# Altium footprint library PcbLib1.PcbLib: 12 footprints
Each footprint in its own frame and in the unit in brackets; x right, y up, seen from the top. Pads: shape width x height; smd on the part's side, far side on the other; paste and mask are expansions set on the pad; w line width, h text height; cw(c..) or ccw(c..) is an arc to the next point about the centre after c.
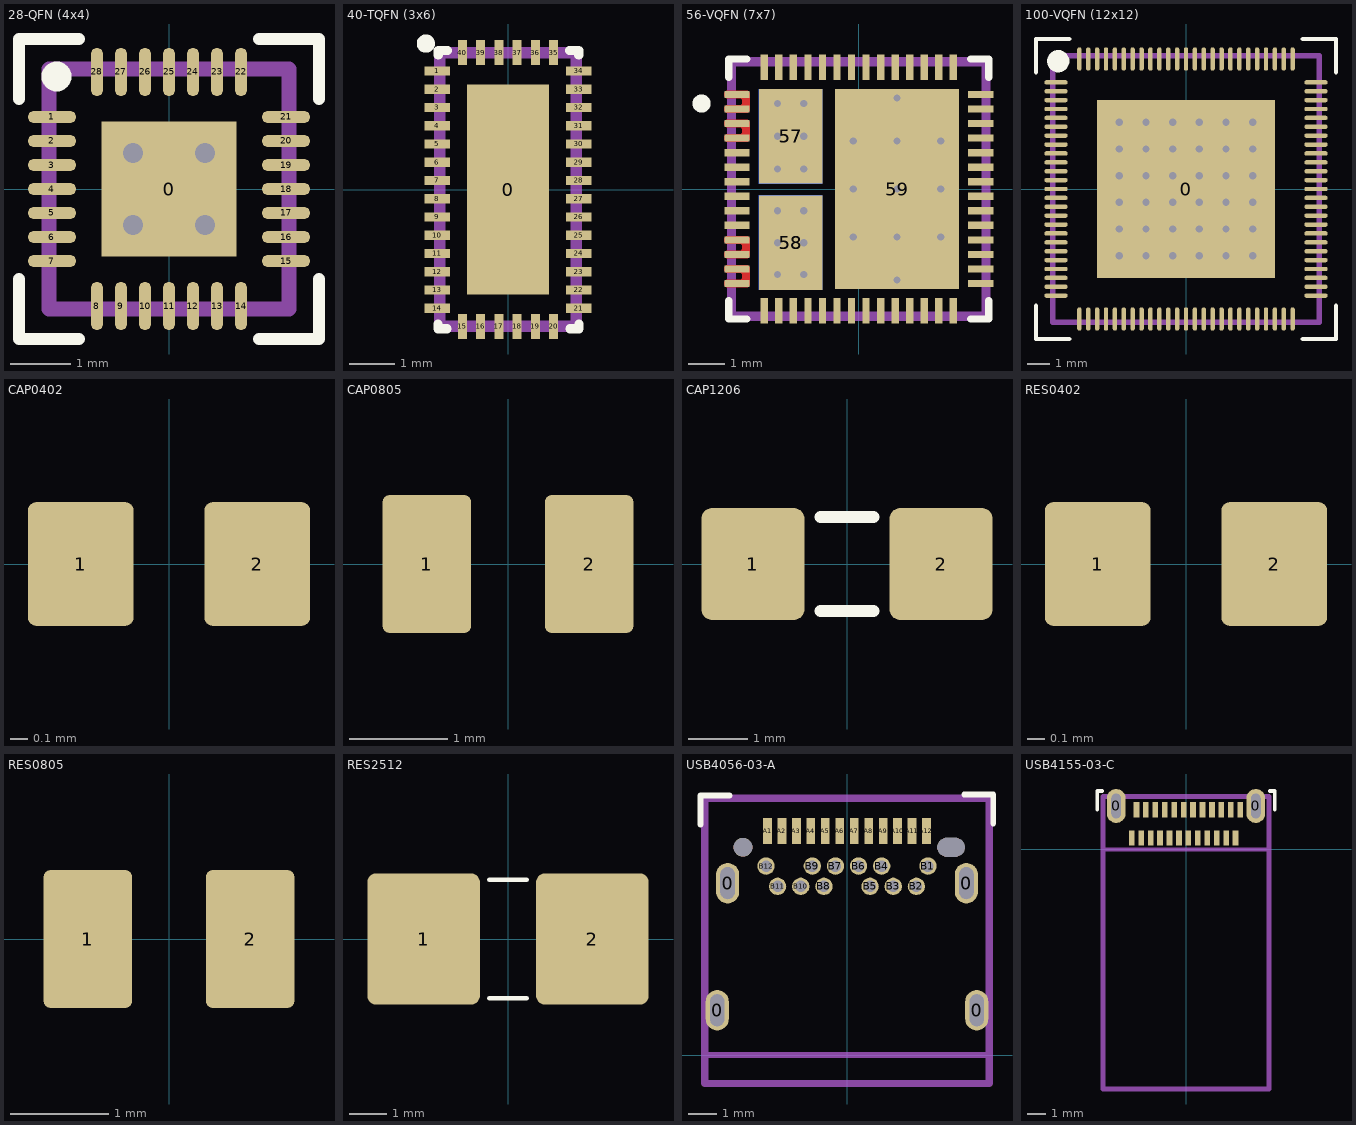
[diagram p0: the footprints below, top view; thin cyan lines are the x and y axes]

## 28-QFN (4x4) [mm] "28-Lead Very Thin Plastic Quad Flat, No Lead Package (P3A) - 4x4 mm Body [VQFN]"
pads (29):
  rect 2.25x2.25 smd: 0(0,0)
  oval 0.8x0.2 smd: 1(-1.95,1.2) 2(-1.95,0.8) 3(-1.95,0.4) 4(-1.95,0) 5(-1.95,-0.4) 6(-1.95,-0.8) 7(-1.95,-1.2) 15(1.95,-1.2) 16(1.95,-0.8) 17(1.95,-0.4) 18(1.95,0) 19(1.95,0.4) 20(1.95,0.8) 21(1.95,1.2)
  oval 0.2x0.8 smd: 8(-1.2,-1.95) 9(-0.8,-1.95) 10(-0.4,-1.95) 11(0,-1.95) 12(0.4,-1.95) 13(0.8,-1.95) 14(1.2,-1.95) 22(1.2,1.95) 23(0.8,1.95) 24(0.4,1.95) 25(0,1.95) 26(-0.4,1.95) 27(-0.8,1.95) 28(-1.2,1.95)
via -0.6,-0.6 diameter 0.6 hole 0.33
via 0.6,-0.6 diameter 0.6 hole 0.33
via 0.6,0.6 diameter 0.6 hole 0.33
via -0.6,0.6 diameter 0.6 hole 0.33
Top Overlay:
  circle w0.25: c-1.875,1.875 r0.125
  lines w0.2: -2.5,-1.5 -2.5,-2.5 -1.5,-2.5 ; -2.5,1.5 -2.5,2.5 -1.5,2.5 ; 1.5,-2.5 2.5,-2.5 2.5,-1.5 ; 1.5,2.5 2.5,2.5 2.5,1.5
Top Component Outline:
  lines w0.254: -2,-2 2,-2 2,2 -2,2 -2,-2
M9 PCB Sheet:
  text ".Designator" at -7.618,-0.508 h1.52
3D body "QFN_50CT-IQ8X_MCH.step": height 0.89, standoff 0, extent -1.994,-1.994 1.994,1.994

## 40-TQFN (3x6) [mm] "40-Pin, TQFN 3X6mm (W-QFN3060-40)"
pads (41):
  rect 1.8x4.6 smd: 0(0,0)
  rect 0.55x0.2 smd: 1(-1.55,2.6) 2(-1.55,2.2) 3(-1.55,1.8) 4(-1.55,1.4) 5(-1.55,1) 6(-1.55,0.6) 7(-1.55,0.2) 8(-1.55,-0.2) 9(-1.55,-0.6) 10(-1.55,-1) 11(-1.55,-1.4) 12(-1.55,-1.8) 13(-1.55,-2.2) 14(-1.55,-2.6) 21(1.55,-2.6) 22(1.55,-2.2) 23(1.55,-1.8) 24(1.55,-1.4) 25(1.55,-1) 26(1.55,-0.6) 27(1.55,-0.2) 28(1.55,0.2) 29(1.55,0.6) 30(1.55,1) 31(1.55,1.4) 32(1.55,1.8) 33(1.55,2.2) 34(1.55,2.6)
  rect 0.2x0.55 smd: 15(-1,-3) 16(-0.6,-3) 17(-0.2,-3) 18(0.2,-3) 19(0.6,-3) 20(1,-3) 35(1,3) 36(0.6,3) 37(0.2,3) 38(-0.2,3) 39(-0.6,3) 40(-1,3)
Top Overlay:
  circle w0.2: c-1.8,3.2 r0.1
  lines w0.2: -1.534,-2.95 -1.534,-3.05 -1.334,-3.05 ; -1.527,2.95 -1.527,3.05 -1.327,3.05 ; 1.35,3.05 1.55,3.05 1.55,2.95 ; 1.358,-3.05 1.558,-3.05 1.558,-2.95
Top Component Outline:
  lines w0.254: -1.5,-3 1.5,-3 1.5,3 -1.5,3 -1.5,-3
3D body "PI3USB31532Q2ZLCEX.stp": height 0.8, standoff 0, extent -1.55,-3.05 1.55,3.05

## 56-VQFN (7x7) [mm]
pads (62):
  rect 0.7x0.2 smd: 1(-3.35,2.6) 2(-3.35,2.2) 3(-3.35,1.8) 4(-3.35,1.4) 5(-3.35,1) 6(-3.35,0.6) 7(-3.35,0.2) 8(-3.35,-0.2) 9(-3.35,-0.6) 10(-3.35,-1) 11(-3.35,-1) 12(-3.35,-1.4) 13(-3.35,-1.8) 14(-3.35,-2.2) 15(-3.35,-2.6) 30(3.35,-2.6) 31(3.35,-2.2) 32(3.35,-1.8) 33(3.35,-1.4) 34(3.35,-1) 35(3.35,-0.6) 36(3.35,-0.2) 37(3.35,0.2) 38(3.35,0.6) 39(3.35,1) 40(3.35,1.4) 41(3.35,1.8) 42(3.35,2.2) 43(3.35,2.6)
  rect 0.2x0.7 smd: 16(-2.6,-3.35) 17(-2.2,-3.35) 18(-1.8,-3.35) 19(-1.4,-3.35) 20(-1,-3.35) 21(-0.6,-3.35) 22(-0.2,-3.35) 23(0.2,-3.35) 24(0.6,-3.35) 25(1,-3.35) 26(1.4,-3.35) 27(1.8,-3.35) 28(2.2,-3.35) 29(2.6,-3.35) 44(2.6,3.35) 45(2.2,3.35) 46(1.8,3.35) 47(1.4,3.35) 48(1,3.35) 49(0.6,3.35) 50(0.2,3.35) 51(-0.2,3.35) 52(-0.6,3.35) 53(-1,3.35) 54(-1.4,3.35) 55(-1.8,3.35) 56(-2.2,3.35) 57(-2.6,3.35)
  rect 1.75x2.6 smd: 57(-1.875,1.45) 58(-1.875,-1.475)
  rect 1.75x2.6 smd far side: 57(-1.875,1.45) 58(-1.875,-1.475)
  rect 3.4x5.5 smd: 59(1.05,0)
via -0.15,0 diameter 0.2 hole 0.2
via -0.15,1.32 diameter 0.2 hole 0.2
via -0.15,-1.32 diameter 0.2 hole 0.2
via 1.05,-1.32 diameter 0.2 hole 0.2
via 1.05,0 diameter 0.2 hole 0.2
via 1.05,1.32 diameter 0.2 hole 0.2
via 1.05,2.5 diameter 0.2 hole 0.2
via 2.25,1.32 diameter 0.2 hole 0.2
via 2.25,0 diameter 0.2 hole 0.2
via 2.25,-1.32 diameter 0.2 hole 0.2
via 1.05,-2.5 diameter 0.2 hole 0.2
via -1.513,-2.35 diameter 0.2 hole 0.2
via -2.237,-2.35 diameter 0.2 hole 0.2
via -2.237,-1.475 diameter 0.2 hole 0.2
via -1.513,-1.475 diameter 0.2 hole 0.2
via -1.513,-0.6 diameter 0.2 hole 0.2
via -2.237,-0.6 diameter 0.2 hole 0.2
via -2.237,0.55 diameter 0.2 hole 0.2
via -1.513,0.55 diameter 0.2 hole 0.2
via -1.513,1.45 diameter 0.2 hole 0.2
via -2.237,1.45 diameter 0.2 hole 0.2
via -2.237,2.35 diameter 0.2 hole 0.2
via -1.513,2.35 diameter 0.2 hole 0.2
Top Layer:
  region: -3.05,-2.1 -3.65,-2.1 -3.7,-2.15 -3.7,-2.25 -3.65,-2.3 -3.25,-2.3 -3.2,-2.35 -3.2,-2.45 -3.25,-2.5 -3.65,-2.5 -3.7,-2.55 -3.7,-2.65 -3.65,-2.7 -3.05,-2.7 -3,-2.65 -3,-2.15
  region: -3.05,-1.3 -3.65,-1.3 -3.7,-1.35 -3.7,-1.45 -3.65,-1.5 -3.25,-1.5 -3.2,-1.55 -3.2,-1.65 -3.25,-1.7 -3.65,-1.7 -3.7,-1.75 -3.7,-1.85 -3.65,-1.9 -3.05,-1.9 -3,-1.85 -3,-1.35
  region: -3.05,2.7 -3.65,2.7 -3.7,2.65 -3.7,2.55 -3.65,2.5 -3.25,2.5 -3.2,2.45 -3.2,2.35 -3.25,2.3 -3.65,2.3 -3.7,2.25 -3.7,2.15 -3.65,2.1 -3.05,2.1 -3,2.15 -3,2.65
  region: -3.05,1.9 -3.35,1.9 -3.65,1.9 -3.7,1.85 -3.7,1.75 -3.65,1.7 -3.25,1.7 -3.2,1.65 -3.2,1.55 -3.25,1.5 -3.65,1.5 -3.7,1.45 -3.7,1.35 -3.65,1.3 -3.05,1.3 -3,1.35 -3,1.85
Top Overlay:
  circle w0.25: c-4.325,2.35 r0.125
  lines w0.2: -3.575,-3.075 -3.575,-3.575 -3.075,-3.575 ; -3.575,3.075 -3.575,3.575 -3.075,3.575 ; 3.075,-3.575 3.575,-3.575 3.575,-3.075 ; 3.075,3.575 3.575,3.575 3.575,3.075
Top Component Outline:
  lines w0.254: -3.5,-3.5 3.5,-3.5 3.5,3.5 -3.5,3.5 -3.5,-3.5
M9 PCB Sheet:
  text ".Designator" at -7.618,-0.508 h1.52
3D body "RSH0056E.stp": height 1, standoff 0, extent -3.5,-3.5 3.5,3.5

## 100-VQFN (12x12) [mm] "100-Lead Very Thin Plastic Quad Flat, No Lead Package (KD) - 12x12 mm Body [VQFN]"
height 0.85
pads (101):
  rect 8x8 smd: 0(0,0)
  oval 1.05x0.2 smd: 1(-5.85,4.8) 2(-5.85,4.4) 3(-5.85,4) 4(-5.85,3.6) 5(-5.85,3.2) 6(-5.85,2.8) 7(-5.85,2.4) 8(-5.85,2) 9(-5.85,1.6) 10(-5.85,1.2) 11(-5.85,0.8) 12(-5.85,0.4) 13(-5.85,0) 14(-5.85,-0.4) 15(-5.85,-0.8) 16(-5.85,-1.2) 17(-5.85,-1.6) 18(-5.85,-2) 19(-5.85,-2.4) 20(-5.85,-2.8) 21(-5.85,-3.2) 22(-5.85,-3.6) 23(-5.85,-4) 24(-5.85,-4.4) 25(-5.85,-4.8) 51(5.85,-4.8) 52(5.85,-4.4) 53(5.85,-4) 54(5.85,-3.6) 55(5.85,-3.2) 56(5.85,-2.8) 57(5.85,-2.4) 58(5.85,-2) 59(5.85,-1.6) 60(5.85,-1.2) 61(5.85,-0.8) 62(5.85,-0.4) 63(5.85,0) 64(5.85,0.4) 65(5.85,0.8) 66(5.85,1.2) 67(5.85,1.6) 68(5.85,2) 69(5.85,2.4) 70(5.85,2.8) 71(5.85,3.2) 72(5.85,3.6) 73(5.85,4) 74(5.85,4.4) 75(5.85,4.8)
  oval 0.2x1.05 smd: 26(-4.8,-5.85) 27(-4.4,-5.85) 28(-4,-5.85) 29(-3.6,-5.85) 30(-3.2,-5.85) 31(-2.8,-5.85) 32(-2.4,-5.85) 33(-2,-5.85) 34(-1.6,-5.85) 35(-1.2,-5.85) 36(-0.8,-5.85) 37(-0.4,-5.85) 38(0,-5.85) 39(0.4,-5.85) 40(0.8,-5.85) 41(1.2,-5.85) 42(1.6,-5.85) 43(2,-5.85) 44(2.4,-5.85) 45(2.8,-5.85) 46(3.2,-5.85) 47(3.6,-5.85) 48(4,-5.85) 49(4.4,-5.85) 50(4.8,-5.85) 76(4.8,5.85) 77(4.4,5.85) 78(4,5.85) 79(3.6,5.85) 80(3.2,5.85) 81(2.8,5.85) 82(2.4,5.85) 83(2,5.85) 84(1.6,5.85) 85(1.2,5.85) 86(0.8,5.85) 87(0.4,5.85) 88(0,5.85) 89(-0.4,5.85) 90(-0.8,5.85) 91(-1.2,5.85) 92(-1.6,5.85) 93(-2,5.85) 94(-2.4,5.85) 95(-2.8,5.85) 96(-3.2,5.85) 97(-3.6,5.85) 98(-4,5.85) 99(-4.4,5.85) 100(-4.8,5.85)
via -3,3 diameter 0.6 hole 0.33
via -3,1.8 diameter 0.6 hole 0.33
via -3,0.6 diameter 0.6 hole 0.33
via -3,-0.6 diameter 0.6 hole 0.33
via -3,-1.8 diameter 0.6 hole 0.33
via -3,-3 diameter 0.6 hole 0.33
via -1.8,3 diameter 0.6 hole 0.33
via -1.8,1.8 diameter 0.6 hole 0.33
via -1.8,0.6 diameter 0.6 hole 0.33
via -1.8,-0.6 diameter 0.6 hole 0.33
via -1.8,-1.8 diameter 0.6 hole 0.33
via -1.8,-3 diameter 0.6 hole 0.33
via -0.6,3 diameter 0.6 hole 0.33
via -0.6,1.8 diameter 0.6 hole 0.33
via -0.6,0.6 diameter 0.6 hole 0.33
via -0.6,-0.6 diameter 0.6 hole 0.33
via -0.6,-1.8 diameter 0.6 hole 0.33
via -0.6,-3 diameter 0.6 hole 0.33
via 0.6,3 diameter 0.6 hole 0.33
via 0.6,1.8 diameter 0.6 hole 0.33
via 0.6,0.6 diameter 0.6 hole 0.33
via 0.6,-0.6 diameter 0.6 hole 0.33
via 0.6,-1.8 diameter 0.6 hole 0.33
via 0.6,-3 diameter 0.6 hole 0.33
via 1.8,3 diameter 0.6 hole 0.33
via 1.8,1.8 diameter 0.6 hole 0.33
via 1.8,0.6 diameter 0.6 hole 0.33
via 1.8,-0.6 diameter 0.6 hole 0.33
via 1.8,-1.8 diameter 0.6 hole 0.33
via 1.8,-3 diameter 0.6 hole 0.33
via 3,3 diameter 0.6 hole 0.33
via 3,1.8 diameter 0.6 hole 0.33
via 3,0.6 diameter 0.6 hole 0.33
via 3,-0.6 diameter 0.6 hole 0.33
via 3,-1.8 diameter 0.6 hole 0.33
via 3,-3 diameter 0.6 hole 0.33
Top Overlay:
  circle w0.5: c-5.75,5.75 r0.25
  lines w0.2: -6.75,-5.25 -6.75,-6.75 -5.25,-6.75 ; -6.75,5.25 -6.75,6.75 -5.25,6.75 ; 5.25,-6.75 6.75,-6.75 6.75,-5.25 ; 5.25,6.75 6.75,6.75 6.75,5.25
Top Component Outline:
  lines w0.254: -6,-6 6,-6 6,6 -6,6 -6,-6
M9 PCB Sheet:
  text ".Designator" at -7.618,-0.508 h1.52
3D body "VQFN100_KDX_MCH.step": height 0.89, standoff 0, extent -5.994,-5.994 5.994,5.994

## CAP0402 [mm] "Chip Capacitor, Body 1x0.5mm, Height 0.35mm, IPC Medium Density"
pads (2):
  rrect15% 0.6x0.7 smd: 1(-0.5,0) 2(0.5,0)
M9 PCB Sheet:
  text ".Designator" at -7.618,-0.553 h1.52
3D body "CAP0402.stp": height 0.54, standoff -0.01, extent -0.525,-0.275 0.525,0.275

## CAP0805 [mm] "Chip Capacitor, Body 2.0x1.2mm, Height 0.45mm, IPC Medium Density"
pads (2):
  rrect15% 0.9x1.4 smd: 1(-0.825,0) 2(0.825,0)
M9 PCB Sheet:
  text ".Designator" at -2.253,-0.226 h1
3D body "CAP0805.stp": height 1.39, standoff -0.01, extent -1.1,-0.725 1.1,0.725

## CAP1206 [mm] "Chip Capacitor, Body 3.2x1.6mm, Height 0.55mm, IPC Medium Density"
height 0.55
pads (2):
  rrect20% 1.75x1.9 smd: 1(-1.6,0) 2(1.6,0)
Top Overlay:
  lines w0.2: -0.45,-0.8 0.45,-0.8 ; -0.45,0.8 0.45,0.8
M9 PCB Sheet:
  text ".Designator" at -2.253,-0.226 h1
3D body "1206.stp": height 0.88, standoff 0, extent -1.7,-0.9 1.7,0.9

## RES0402 [mm] "Chip Resistor, Body 1x0.5mm, IPC Medium Density"
pads (2):
  rrect15% 0.6x0.7 smd: 1(-0.5,0) 2(0.5,0)
M9 PCB Sheet:
  text ".Designator" at -2.253,-0.226 h1
3D body "User Library-R SMD 0402.STEP": height 0.27, standoff -0.08, extent -0.5,-0.25 0.5,0.25

## RES0805 [mm] "Chip Resistor, 2-Leads, Body 2.00x1.25mm, IPC High Density"
height 0.5
pads (2):
  rrect15% 0.9x1.4 smd: 1(-0.825,0) 2(0.825,0)
M9 PCB Sheet:
  text ".Designator" at -2.253,-0.226 h1
3D body "0805 resistor.step": height 0.61, standoff 0.01, extent -1,-0.625 1,0.625

## RES2512 [mm]
pads (2):
  rrect15% 3x3.5 smd: 1(-2.25,0) 2(2.25,0)
Top Overlay:
  lines w0.127: -0.5,-1.58 0.5,-1.58 ; -0.5,1.58 0.5,1.58
M9 PCB Sheet:
  text ".Designator" at -3.379,-0.339 h1.5
3D body "R SMD 2512.STEP": height 0.82, standoff 0.22, extent -3.131,-1.575 3.169,1.575

## USB4056-03-A [mm] "USB C 3.2 REC, HORZ, HYBRID PCB"
pads (30):
  oval 0.8x1.4 hole 0.5 slot 1.1 at 90 deg mask+0.15: 0(-4.49,1.55) 0(-4.13,5.95) 0(4.49,1.55)
  oval 0.8x1.4 hole 0.5 slot 1.1 at 90 deg: 0(4.13,5.95)
  rect 0.3x0.9 smd: A1(-2.75,7.75) A2(-2.25,7.75) A3(-1.75,7.75) A4(-1.25,7.75) A5(-0.75,7.75) A6(-0.25,7.75) A7(0.25,7.75) A8(0.75,7.75) A9(1.25,7.75) A10(1.75,7.75) A11(2.25,7.75) A12(2.75,7.75)
  round 0.6 hole 0.4: B1(2.8,6.54) B2(2.4,5.84) B3(1.6,5.84) B4(1.2,6.54) B5(0.8,5.84) B6(0.4,6.54) B7(-0.4,6.54) B8(-0.8,5.84) B9(-1.2,6.54) B10(-1.6,5.84) B11(-2.4,5.84) B12(-2.8,6.54)
  round 0.65 hole 0.65: ""(-3.6,7.19)
  oval 0.95x0.65 hole 0.65 slot 0.95 at 0 deg: ""(3.6,7.19)
Top Overlay:
  lines w0.2: -5.066,7.978 -5.066,8.978 -4.066,8.978 ; 4.06,9.015 5.06,9.015 5.06,8.015
M1 Board Outline:
  lines w0.2: -4.925,0 4.925,0
Top Component Outline:
  lines w0.254: -4.925,-0.98 4.925,-0.98 4.925,8.89 -4.925,8.89 -4.925,-0.98
M9 PCB Sheet:
  text ".Designator" at -7.618,3.447 h1.52
3D body "USB4056-03-A.stp": height 3.33, standoff -1.13, extent -4.925,-0.98 4.925,8.89

## USB4155-03-C [mm] "USB TYPE C, PLUG, SMT , G/F, RIG"
pads (26):
  oval 1x1.8 hole 0.5 slot 1.3 at 90 deg: 0(-3.7,2.3) 0(3.7,2.3)
  rect 0.3x0.8 smd: A1(2.875,2.1) A2(2.375,2.1) A3(1.875,2.1) A4(1.375,2.1) A5(0.875,2.1) A6(0.375,2.1) A7(-0.125,2.1) A8(-0.625,2.1) A9(-1.125,2.1) A10(-1.625,2.1) A11(-2.125,2.1) A12(-2.625,2.1) B1(-2.875,0.6) B2(-2.375,0.6) B3(-1.875,0.6) B4(-1.375,0.6) B5(-0.875,0.6) B6(-0.375,0.6) B7(0.125,0.6) B8(0.625,0.6) B9(1.125,0.6) B10(1.625,0.6) B11(2.125,0.6) B12(2.625,0.6)
Top Overlay:
  lines w0.2: -4.7,2.1 -4.7,3.1 -4.45,3.1 ; 4.45,3.1 4.7,3.1 4.7,2.1
M1 Board Outline:
  lines w0.2: -4.4,0 4.4,0
Top Component Outline:
  lines w0.254: -4.4,-12.7 4.4,-12.7 4.4,2.8 -4.4,2.8 -4.4,-12.7
3D body "USB4155-03-C.stp": height 1.58, standoff -1.32, extent -4.4,-12.7 4.4,2.8